# Altium footprint library MAX30102_Adapter.PcbLib: 1 footprints
Each footprint in its own frame and in the unit in brackets; x right, y up, seen from the top. Pads: shape width x height; smd on the part's side, far side on the other; paste and mask are expansions set on the pad; w line width, h text height; cw(c..) or ccw(c..) is an arc to the next point about the centre after c.
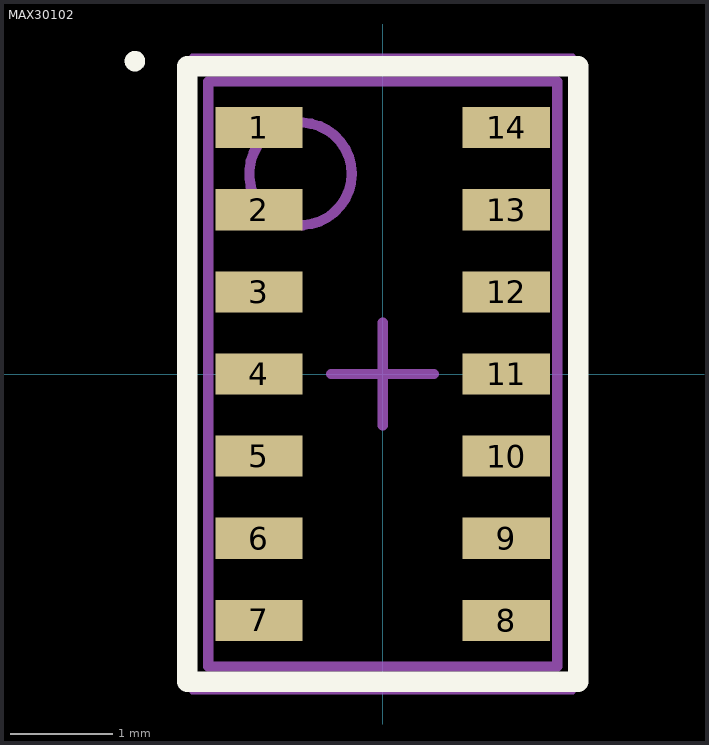
[diagram p0: the footprint, top view; thin cyan lines are the x and y axes]

## MAX30102 [mm]
height 1.65
pads (14):
  rect 0.85x0.4 smd: 1(-1.205,2.4) 2(-1.205,1.6) 3(-1.205,0.8) 4(-1.205,0) 5(-1.205,-0.8) 6(-1.205,-1.6) 7(-1.205,-2.4) 8(1.205,-2.4) 9(1.205,-1.6) 10(1.205,-0.8) 11(1.205,0) 12(1.205,0.8) 13(1.205,1.6) 14(1.205,2.4)
Top Overlay:
  circle w0.1: c-2.413,3.048 r0.05
  lines w0.2: -1.7,-3 1.7,-3 ; -1.905,-3 -1.905,3 1.7,3 1.905,3 1.905,-3 -1.905,-3
Mechanical 13:
  circle w0.1: c-0.8,1.95 r0.5
  lines w0.1: -1.7,-2.85 1.7,-2.85 1.7,2.85 -1.7,2.85 -1.7,-2.85
Mechanical 15:
  lines w0.05: -1.855,-3.1 1.855,-3.1 1.855,3.1 -1.855,3.1 -1.855,-3.1
  lines w0.1: -0.5,0 0.5,0 ; 0,-0.5 0,0.5
3D body "User Library-MAX30101.SLDPRT": height 1.47, standoff -0.08, extent -1.65,-2.8 1.65,2.8